# Altium footprint library USOP.PcbLib: 1 footprints
Each footprint in its own frame and in the unit in brackets; x right, y up, seen from the top. Pads: shape width x height; smd on the part's side, far side on the other; paste and mask are expansions set on the pad; w line width, h text height; cw(c..) or ccw(c..) is an arc to the next point about the centre after c.
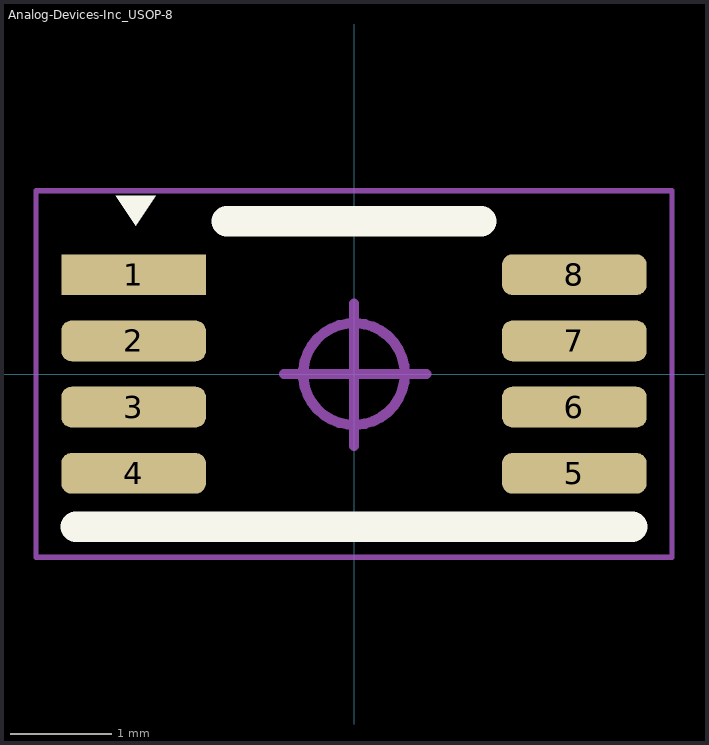
[diagram p0: the footprint, top view; thin cyan lines are the x and y axes]

## Analog-Devices-Inc_USOP-8 [mm]
height 1.1
pads (8):
  rect 1.42x0.4 smd: 1(-2.165,0.975)
  rrect50% 1.42x0.4 smd: 2(-2.165,0.325) 3(-2.165,-0.325) 4(-2.165,-0.975) 5(2.165,-0.975) 6(2.165,-0.325) 7(2.165,0.325) 8(2.165,0.975)
Top Overlay:
  region: -1.946,1.753 -2.34,1.753 -2.143,1.457
  lines w0.3: -2.73,-1.5 2.73,-1.5 ; -1.249,1.501 1.251,1.501
Top Designator:
  text ".Designator" at -1.9,-0.3 h1
Top Component Outline:
  lines w0.05: -3.125,-1.8 -3.125,1.8 3.125,1.8 3.125,-1.8 -3.125,-1.8
Top Component Center:
  circle w0.1: c0,0 r0.5
  lines w0.1: -0.686,0 0.711,0 ; -0.001,-0.706 -0.001,0.691
3D body "MAX5722EUA+.STEP": height 1.1, standoff 0, extent -2.452,-1.5 2.452,1.5